# Altium footprint library PcbLib1.PcbLib: 1 footprints
Each footprint in its own frame and in the unit in brackets; x right, y up, seen from the top. Pads: shape width x height; smd on the part's side, far side on the other; paste and mask are expansions set on the pad; w line width, h text height; cw(c..) or ccw(c..) is an arc to the next point about the centre after c.
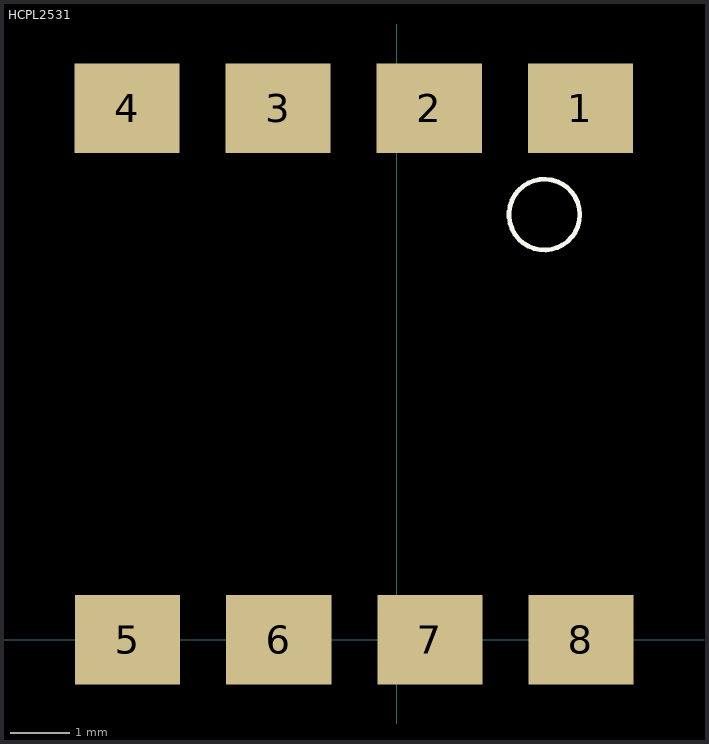
[diagram p0: the footprint, top view; thin cyan lines are the x and y axes]

## HCPL2531 [mm] "HCPL2531 optocoupler"
height 5.08
pads (8):
  rect 1.78x1.52 smd: 1(3.11,9) 2(0.55,9) 3(-2.01,9) 4(-4.57,9) 5(-4.56,0) 6(-2,0) 7(0.56,0) 8(3.12,0)
Top Overlay:
  circle w0.08: c2.5,7.2 r0.6